# EAGLE library part WE-RJ45_7499151120 (library 74980104400_Eagle_WE-RJ45_rev19b)
WE-RJ45 LAN Transformer Characteristics RJ45 Connector with integrated transformer / common mode choke Power over Ethernet up to 50 Watt and speeds up to 10 Gbit/s Available in SMD, THT and THT with USB Compliant with standards: IEEE 802.3u, IEEE 802.3ab, IEEE 802.3af, IEEE 802.3at, IEEE 802.3an and upcoming IEE 802.3bt Applications Suitable for industrial temperatures from –40 °C up to +85 °C Compatible to Industrial Ethernet systems like EtherCAT or Profinet Compliant with most IC’s for Ethernet applications such as Microchip, Texas Instruments, Broadcom, Linear Technology Hubs, Routers, Switches, IP cameras, IoT applications <https://katalog.we-online.com/media/images/v2/o35731v209%20Family_WE-RJ45-LAN.jpg> Details see: https://katalog.we-online.com/en/pbs/WE-LAN-RJ45 Updated by Ella Wu 2019-08-05 2019 (C) Wurth Elektronik
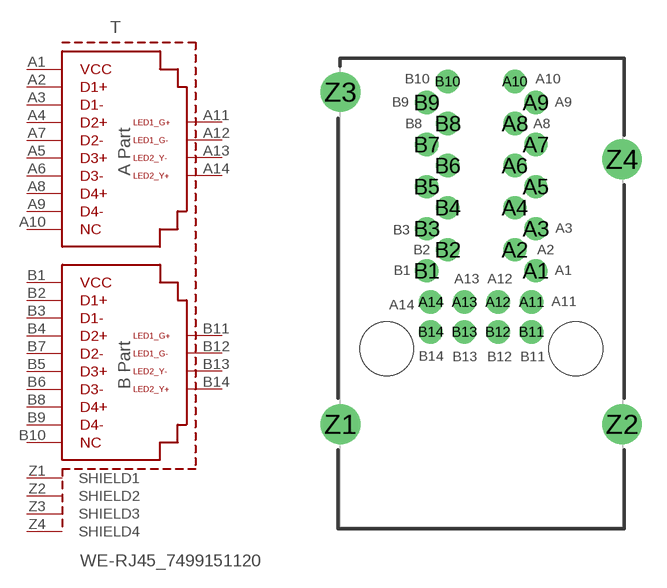
[diagram p72: symbol with the pads of 7499151120; footprint 7499151120]

Designator prefix T

## WE-RJ45_7499151120 (DATA-RATE: 10/100/1000 Base-T; DATASHEET-URL: https://katalog.we-online.com/pbs/datasheet/7499151120.pdf; LED: yellow-green; MOUNT: THT; PART-NUMBER: 7499151120; POE: non-PoE; PORTS: 2x1; USB: No)  [7499151120]
A1  A1
A2  A2
A3  A3
A4  A4
A5  A5
A6  A6
A7  A7
A8  A8
A9  A9
A10  A10
A11  A11  pas
A12  A12  pas
A13  A13  pas
A14  A14  pas
B1  B1
B2  B2
B3  B3
B4  B4
B5  B5
B6  B6
B7  B7
B8  B8
B9  B9
B10  B10
B11  B11  pas
B12  B12  pas
B13  B13  pas
B14  B14  pas
Z1  SHIELD1  pwr
Z2  SHIELD2  pwr
Z3  SHIELD3  pwr
Z4  SHIELD4  pwr

## Footprint 7499151120 (pad centres in mm)
WE-RJ45 LAN Transformer 10/100/1000 Base-T
drill 0.9: A1 3.3,4.7; A2 2.03,5.97; A3 3.3,7.24; A4 2.03,8.51; A5 3.3,9.78; A6 2.03,11.05; A7 3.3,12.32; A8 2.03,13.59; A9 3.3,14.86; A10 2.03,16.13; A11 3.045,2.81; A12 1.015,2.81; A13 -1.015,2.81; A14 -3.045,2.81; B1 -3.3,4.7; B2 -2.03,5.97; B3 -3.3,7.24; B4 -2.03,8.51; B5 -3.3,9.78; B6 -2.03,11.05; B7 -3.3,12.32; B8 -2.03,13.59; B9 -3.3,14.86; B10 -2.03,16.13; B11 3.045,1.01; B12 1.015,1.01; B13 -1.015,1.01; B14 -3.045,1.01
drill 1.6: Z1 -8.505,-4.57; Z2 8.505,-4.57; Z3 -8.505,15.49; Z4 8.505,11.43
hole 3.25 at 5.715,0
hole 3.25 at -5.715,0